# Altium schematic symbol library PFR05S-153-FNH.SchLib: 1 symbol
Pins are listed as number, name and electrical type; pins without a type are passive.

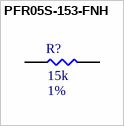
[diagram p0: symbol PFR05S-153-FNH]

## PFR05S-153-FNH
designator R?  Resistance: 15k  Tolerance: 1%  (hidden comment: PFR05S-153-FNH)
RES SMD 15 KOHM 1% 1/16W 0402; MFR: Delta Electronics/Cyntec; PN: PFR05S-153-FNH; Footprint: RES0402; Package: 0402; ComponentLink1Description: Datasheet; ComponentLink1URL: http://www.cyntec.com/upfile/products/download/RH000000NH%20_A3_PFR05.pdf; Power Rating: 1/16W; Supplier 1: Digi-Key; Supplier Part Number 1: 2037-PFR05S-153-FNHCT-ND
footprint RES0402 (Generic 0402 PCB Footprint)
pins: 1, 2